# Altium footprint library INDPM155165X1300N.PcbLib: 1 footprints
Each footprint in its own frame and in the unit in brackets; x right, y up, seen from the top. Pads: shape width x height; smd on the part's side, far side on the other; paste and mask are expansions set on the pad; w line width, h text height; cw(c..) or ccw(c..) is an arc to the next point about the centre after c.
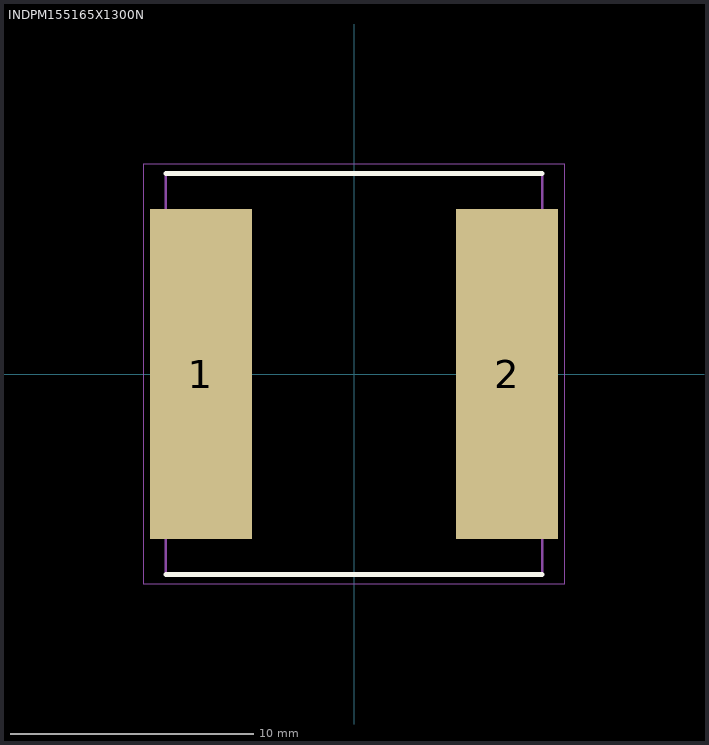
[diagram p0: the footprint, top view; thin cyan lines are the x and y axes]

## INDPM155165X1300N [mm]
pads (2):
  rect 4.2x13.6 smd: 1(-6.3,0) 2(6.3,0)
Top Overlay:
  lines w0.2: -7.75,-8.25 7.75,-8.25 ; -7.75,8.25 7.75,8.25
Mechanical 15:
  lines w0.1: -7.75,-8.25 7.75,-8.25 7.75,8.25 -7.75,8.25 -7.75,-8.25
Mechanical 20:
  lines w0.05: -8.65,-8.65 8.65,-8.65 8.65,8.65 -8.65,8.65 -8.65,-8.65